# Altium schematic symbol library Test_Library.SchLib: 14 symbols
Pins are listed as number, name and electrical type; pins without a type are passive.

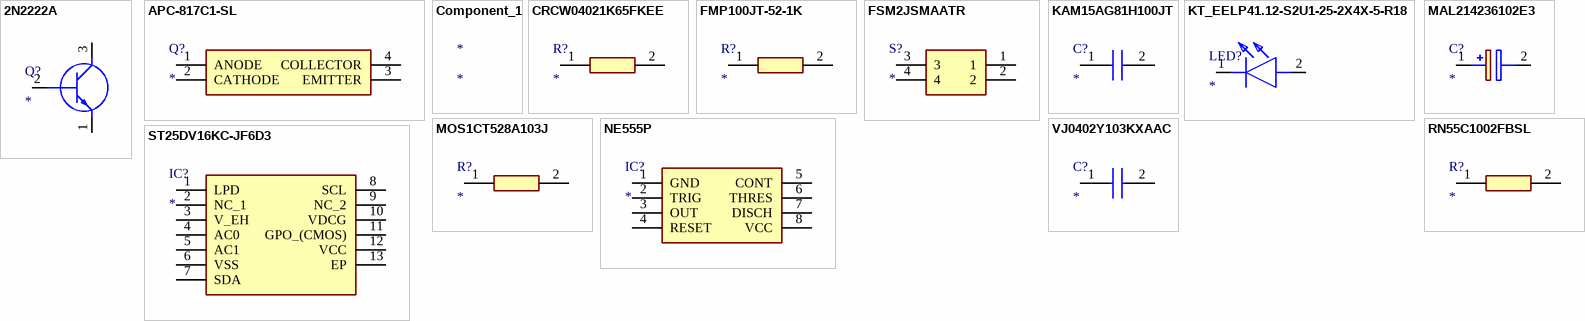
[diagram p0: symbols 2N2222A to VJ0402Y103KXAAC]

## 2N2222A
designator Q?
Transistor BJT NPN; Manufacturer_Name: Diotec; Manufacturer_Part_Number: 2N2222A; Datasheet Link: https://diotec.com/request/datasheet/2n2222a.pdf; Height: 7.5mm; Mouser Part Number: 637-2N2222A; Mouser Price/Stock: https://www.mouser.co.uk/ProductDetail/Diotec-Semiconductor/2N2222A?qs=OlC7AqGiEDmNlRSTGL2dYg%3D%3D; Arrow Part Number: 2N2222A; Arrow Price/Stock: https://www.arrow.com/en/products/2n2222a/diotec-semiconductor-ag
footprint 2N2222A
pins: 1 E, 2 B, 3 C

## APC-817C1-SL
designator Q?
Phototransistor; Manufacturer_Name: American Bright LED; Manufacturer_Part_Number: APC-817C1-SL; Datasheet Link: https://www.americanbrightled.com/pdffiles/ir-uv/ir/APC-817.pdf; Height: 3.8mm; Mouser Part Number: 442-APC817C1SL; Mouser Price/Stock: https://www.mouser.co.uk/ProductDetail/American-Bright-LED/APC-817C1-SL?qs=Y0Uzf4wQF3lGQlk7OLeIsw%3D%3D
footprint APC817C1SL
pins: 1 ANODE, 2 CATHODE, 3 EMITTER, 4 COLLECTOR

## Component_1
designator *

## CRCW04021K65FKEE
designator R?
Resistor; Manufacturer_Name: Vishay; Manufacturer_Part_Number: CRCW04021K65FKEE; Description: Thick Film Resistors - SMD D10/CRCW0402 100 1K65 1% EF4 e3; Datasheet Link: http://www.vishay.com/docs/20035/dcrcwe3.pdf; Height: 0.4mm
footprint CRCW0402200KFKED
pins: 1, 2

## FMP100JT-52-1K
designator R?
Resistor; Manufacturer_Name: Yageo Group; Manufacturer_Part_Number: FMP100JT-52-1K; Datasheet Link: https://mouser.componentsearchengine.com/Datasheets/1/FMP100JT-52-1K.pdf; Mouser Part Number: 603-FMP100JT-52-1K; Mouser Price/Stock: https://www.mouser.co.uk/ProductDetail/Yageo/FMP100JT-52-1K?qs=gt1LBUVyoHnryrTyh1JL7w%3D%3D; Arrow Part Number: FMP100JT-52-1K; Arrow Price/Stock: https://www.arrow.com/en/products/fmp-100jt-52-1k/yageo?region=nac
footprint RESAD1590W60L630D240
pins: 1, 2

## FSM2JSMAATR
designator S?
Switch; Manufacturer_Name: TE Connectivity; Manufacturer_Part_Number: FSM2JSMAATR; Datasheet Link: https://www.te.com/commerce/DocumentDelivery/DDEController?Action=srchrtrv&DocNm=1654270-2&DocType=Catalog%20Section&DocLang=English&PartCntxt=2-1437565-9&DocFormat=pdf; Mouser Part Number: 506-FSM2JSMAATR; Mouser Price/Stock: https://www.mouser.co.uk/ProductDetail/TE-Connectivity-Alcoswitch/FSM2JSMAATR?qs=g%252BEszo6zu8MKdISiZRITCQ%3D%3D; Arrow Part Number: FSM2JSMAATR; Arrow Price/Stock: https://www.arrow.com/en/products/fsm2jsmaatr/te-connectivity.html?utm_currency=USD&region=europe
footprint FSM2J_1
pins: 1, 2, 3, 4

## KAM15AG81H100JT
designator C?
Capacitor; Manufacturer_Name: Kyocera AVX; Manufacturer_Part_Number: KAM15AG81H100JT; Datasheet Link: https://datasheets.kyocera-avx.com/AutoMLCCKAM.pdf; Height: 0.9mm
footprint CAPC1608X90N
pins: 1, 2

## KT_EELP41.12-S2U1-25-2X4X-5-R18
designator LED?
LED; Manufacturer_Name: ams OSRAM; Manufacturer_Part_Number: KT EELP41.12-S2U1-25-2X4X-5-R18; Datasheet Link: https://in.element14.com/ams-osram-group/kt-eelp41-12-s2u1-25-2x4x-5-r18/led-true-green-224mcd-527nm-130deg/dp/4540818; Height: 0.5mm; Mouser Part Number: 720-P4112S2U1252X4X5; Mouser Price/Stock: https://www.mouser.co.uk/ProductDetail/ams-OSRAM/KT-EELP41.12-S2U1-25-2X4X-5-R18?qs=ZcfC38r4PosnM6jzR6CYig%3D%3D
footprint KTEELP4112S2U1252X4X5R18
pins: 1 K, 2 A

## MAL214236102E3
designator C?
Capacitor Polarised; Manufacturer_Name: Vishay; Manufacturer_Part_Number: MAL214236102E3; Datasheet Link: http://www.vishay.com/docs/28402/142rhs.pdf; Height: 22mm; Mouser Part Number: 594-MAL214236102E3; Mouser Price/Stock: https://www.mouser.co.uk/ProductDetail/Vishay-BC-Components/MAL214236102E3?qs=Ep9Lwju7gVqCnoasHklGbw%3D%3D
footprint CAPPRD500W60D1050H2200
pins: 1 +, 2 -

## MOS1CT528A103J
designator R?
Resistor; Manufacturer_Name: KOA Speer; Manufacturer_Part_Number: MOS1CT528A103J; Datasheet Link: https://mouser.componentsearchengine.com/Datasheets/1/MOS1CT528A103J.pdf; Mouser Part Number: 660-MOS1CT528A103J; Mouser Price/Stock: https://www.mouser.co.uk/ProductDetail/KOA-Speer/MOS1CT528A103J?qs=lc2O%252BfHJPVanf9VOC6Ilbg%3D%3D
footprint RESAD2100W80L900D300
pins: 1, 2

## NE555P
designator IC?
Integrated Circuit; Manufacturer_Name: Texas Instruments; Manufacturer_Part_Number: NE555P; Datasheet Link: http://www.ti.com/lit/ds/symlink/ne555.pdf; Height: 5.08mm; Mouser Part Number: 595-NE555P; Mouser Price/Stock: https://www.mouser.co.uk/ProductDetail/Texas-Instruments/NE555P?qs=rkhjVJ6%2F3EIf4CWgjIKuKQ%3D%3D; Arrow Part Number: NE555P; Arrow Price/Stock: https://www.arrow.com/en/products/ne555p/texas-instruments?utm_currency=USD&region=europe
footprint DIP794W53P254L959H508Q8N
pins: 1 GND, 2 TRIG, 3 OUT, 4 RESET, 5 CONT, 6 THRES, 7 DISCH, 8 VCC

## RN55C1002FBSL
designator R?
Resistor; Manufacturer_Name: Vishay; Manufacturer_Part_Number: RN55C1002FBSL; Datasheet Link: https://www.vishay.com/docs/31027/cmfmil.pdf
footprint RESAD1526W69L610D229
pins: 1, 2

## ST25DV16KC-JF6D3
designator IC?
Integrated Circuit; Manufacturer_Name: STMicroelectronics; Manufacturer_Part_Number: ST25DV16KC-JF6D3; Datasheet Link: https://www.st.com/resource/en/datasheet/st25dv04kc.pdf; Height: 0.6mm; Mouser Part Number: 511-ST25DV16KC-JF6D3; Mouser Price/Stock: https://www.mouser.co.uk/ProductDetail/STMicroelectronics/ST25DV16KC-JF6D3?qs=QNEnbhJQKvagGd4c%252BMJmeA%3D%3D
footprint ST25DV64KCJF6D3
pins: 1 LPD, 2 NC_1, 3 V_EH, 4 AC0, 5 AC1, 6 VSS, 7 SDA, 8 SCL, 9 NC_2, 10 VDCG, 11 GPO_(CMOS), 12 VCC, 13 EP

## VJ0402Y103KXAAC
designator C?
Capacitor; Manufacturer_Name: Vishay; Manufacturer_Part_Number: VJ0402Y103KXAAC; Description: Multilayer Ceramic Capacitors MLCC - SMD/SMT 0402 10nF 50volts X7R 10%; Datasheet Link: https://www.vishay.com/docs/45199/vjcommercialseries.pdf; Height: 0.6mm; Mouser Part Number: 77-VJ0402Y103KXAAC; Mouser Price/Stock: https://www.mouser.co.uk/ProductDetail/Vishay-Vitramon/VJ0402Y103KXAAC?qs=e%2F7vlcXyL81c3K8Dz3L1zQ%3D%3D
footprint CAPC1005X60N
pins: 1, 2